# EAGLE library part ATMEGA48 (library ATmega48)
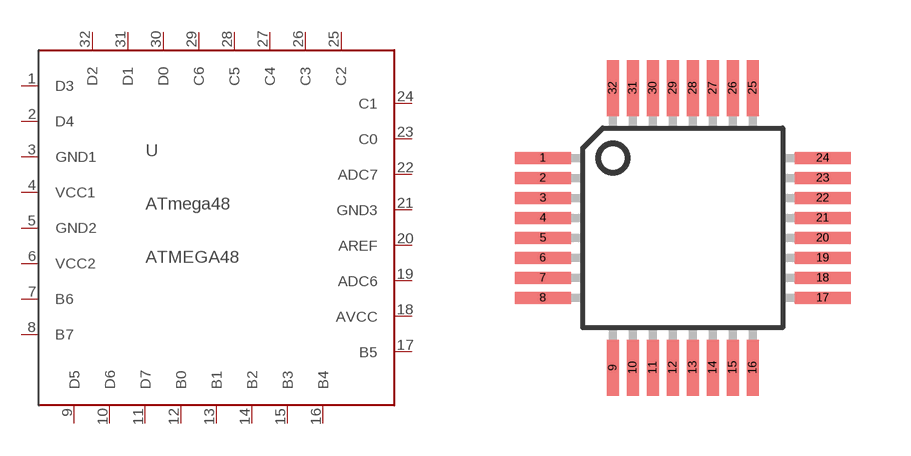
[diagram p0: symbol with the pads of ATMEGA48; footprint ATMEGA48]

Designator prefix -

## ATMEGA48  [ATMEGA48]
1  D3
2  D4
3  GND1
4  VCC1
5  GND2
6  VCC2
7  B6
8  B7
9  D5
10  D6
11  D7
12  B0
13  B1
14  B2
15  B3
16  B4
17  B5
18  AVCC
19  ADC6
20  AREF
21  GND3
22  ADC7
23  C0
24  C1
25  C2
26  C3
27  C4
28  C5
29  C6
30  D0
31  D1
32  D2

## Footprint ATMEGA48 (pad centres in mm)
smd 1.4 x 0.3: 1 -0.96,4.29; 2 -0.96,3.79; 3 -0.96,3.29; 4 -0.96,2.79; 5 -0.96,2.29; 6 -0.96,1.79; 7 -0.96,1.29; 8 -0.96,0.79; 17 6.04,0.79; 18 6.04,1.29; 19 6.04,1.79; 20 6.04,2.29; 21 6.04,2.79; 22 6.04,3.29; 23 6.04,3.79; 24 6.04,4.29
smd 0.3 x 1.4: 9 0.79,-0.96; 10 1.29,-0.96; 11 1.79,-0.96; 12 2.29,-0.96; 13 2.79,-0.96; 14 3.29,-0.96; 15 3.79,-0.96; 16 4.29,-0.96; 25 4.29,6.04; 26 3.79,6.04; 27 3.29,6.04; 28 2.79,6.04; 29 2.29,6.04; 30 1.79,6.04; 31 1.29,6.04; 32 0.79,6.04